# EAGLE library part 418127270903 (library Wurth_Elektronik_Electromechanic_Switch_rev15d)
WS-IC 2.54 mm small compact THT Dip Switch with raised actuator, 3 Poles SPECIFICATION Contact Rating Switching : 25mA, 24VDC Non-Switching : 100mA, 50VDC Contact Resistance Initial: 50mΩ max. After life test : 100mΩ max. Insulation Resistance : min. 100MΩ at 500VDC Dielectric Strength : 500VAC for 1 minute Operation Force : 600g max. Mechanical Life : 2000 cycles Electrical Life : 2000 cycles / 25mA, 24VDC Raise Actuator type <http://katalog.we-online.de/media/thumbs2/eican/thb_WS-IC_tht_raised_actuator_4.jpg> Details see: http://katalog.we-online.de/en/em/418_127_270_9xx Created on 2015-06-24 2015 (C) Wurth Elektronik
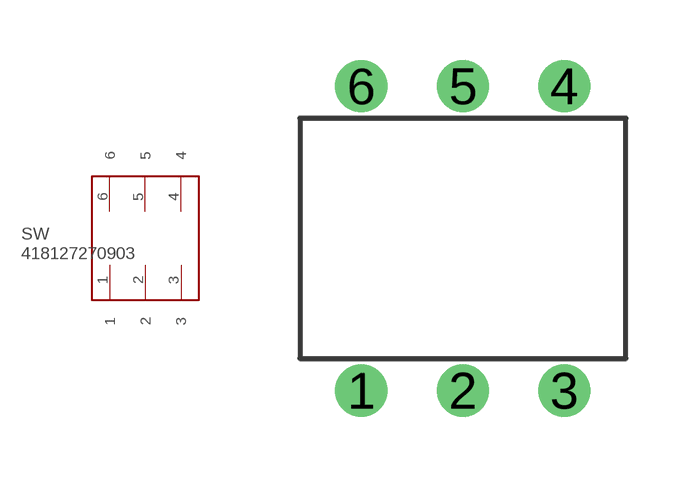
[diagram p109: symbol with the pads of 418127270903; footprint 418127270903]

Designator prefix SW

## 418127270903  [418127270903]
1  1
2  2
3  3
4  4
5  5
6  6

## Footprint 418127270903 (pad centres in mm)
WS-IC 2.54 mm small compact THT Dip Switch with raised actuator, 3 Pole
drill 0.8: 1 -2.54,-3.81; 2 0,-3.81; 3 2.54,-3.81; 4 2.54,3.81; 5 0,3.81; 6 -2.54,3.81